# Altium footprint library zulu_a7.PcbLib: 41 footprints (part 1 of 3)
Each footprint in its own frame and in the unit in brackets; x right, y up, seen from the top. Pads: shape width x height; smd on the part's side, far side on the other; paste and mask are expansions set on the pad; w line width, h text height; cw(c..) or ccw(c..) is an arc to the next point about the centre after c.
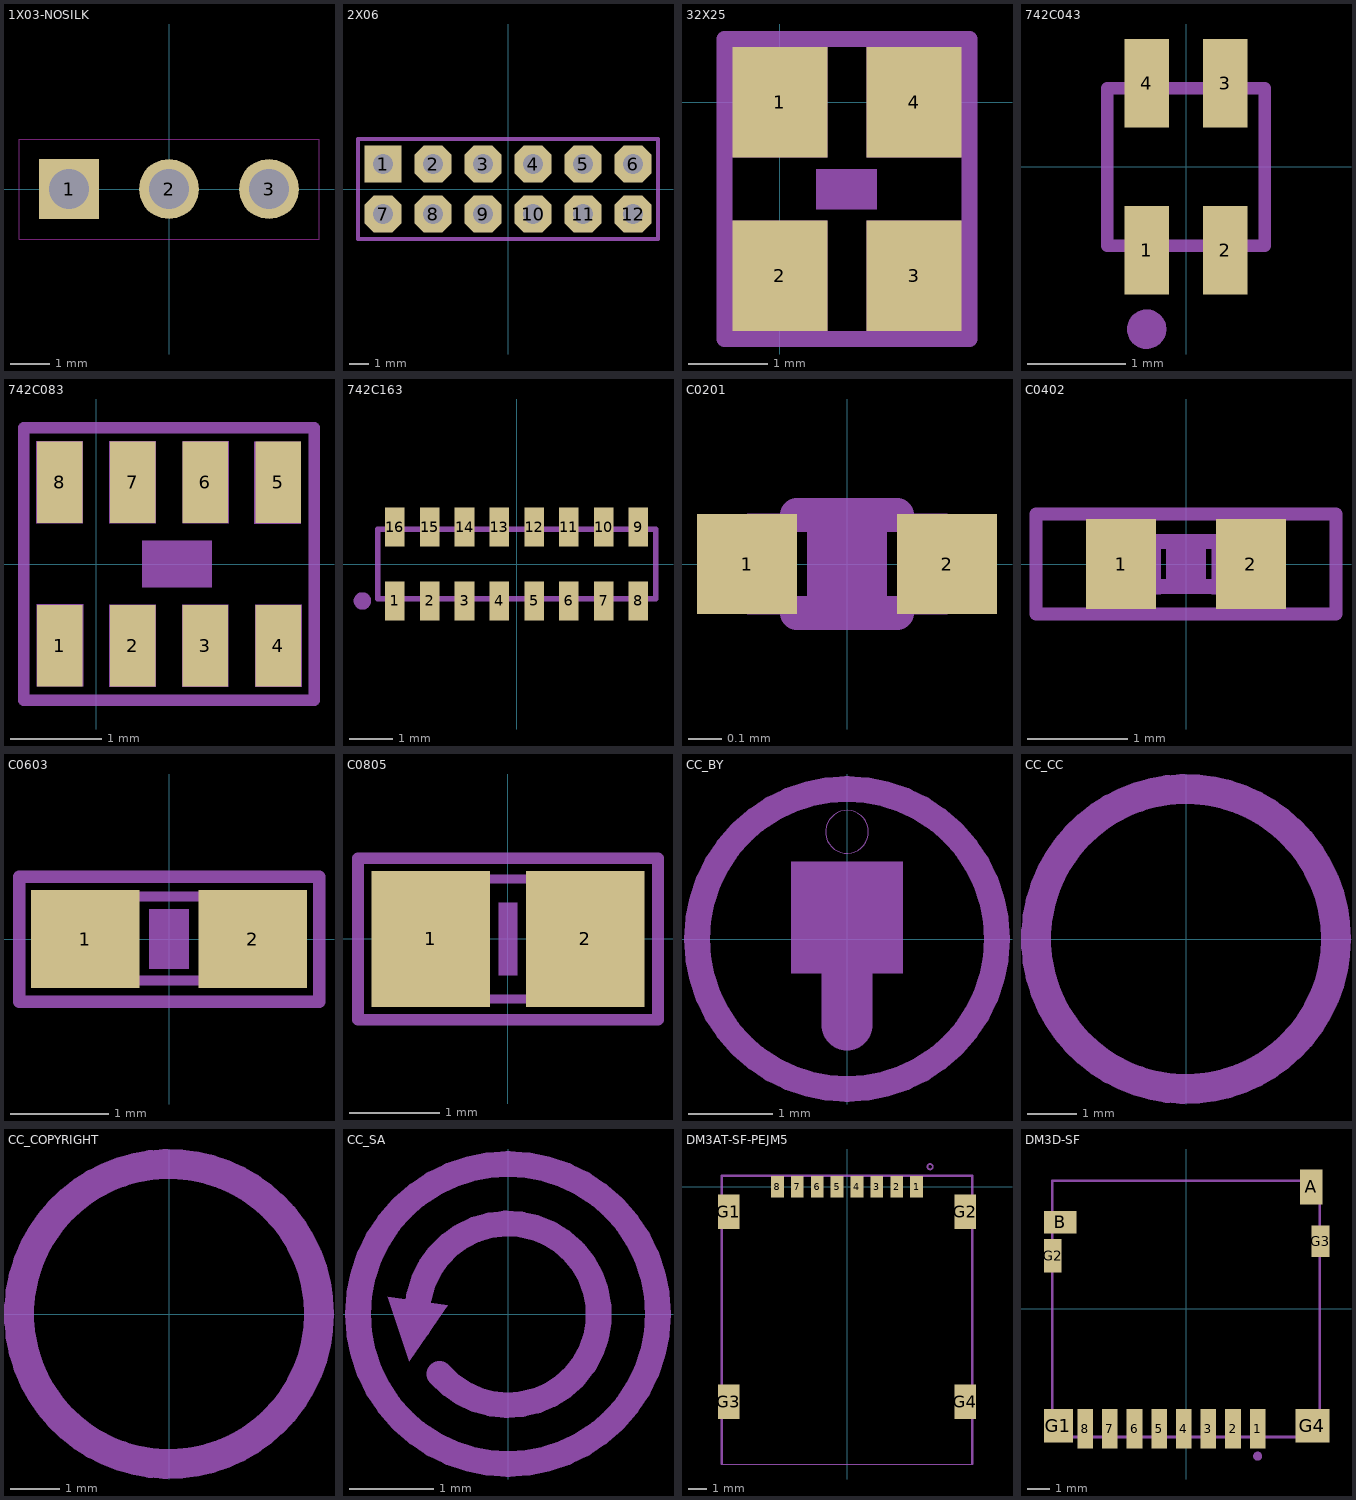
[diagram p0: the footprints below, top view; thin cyan lines are the x and y axes]

## 1X03-NOSILK [mil] "1X03-NOSILK"
pads (3):
  rect 60x60 / inner round 55.43 / far side rect 60x60 hole 40: 1(-100,0)
  round 60 hole 40: 2(0,0) 3(100,0)
Top Layer keep-out:
  lines w0: -150,-50 150,-50 150,50 -150,50 -150,-50
Mechanical 3:
  region: -110,-10 -110,10 -90,10 -90,-10
  region: -10,-10 -10,10 10,10 10,-10
  region: 90,-10 90,10 110,10 110,-10

## 2X06 [mil] "2X06"
pads (12):
  rect 74x74 / inner round 68.37 / far side rect 74x74 hole 40: 1(-250,50)
  oct 74x74 / inner round 68.37 / far side oct 74x74 hole 40: 2(-150,50) 3(-50,50) 4(50,50) 5(150,50) 6(250,50) 7(-250,-50) 8(-150,-50) 9(-50,-50) 10(50,-50) 11(150,-50) 12(250,-50)
Mechanical 7:
  lines w8: -300,-100 300,-100 300,100 -300,100 -300,-100

## 32X25 [mm] "32X25"
pads (4):
  rect 1.2x1.4 smd: 1(0,0) 2(0,-2.2) 3(1.7,-2.2) 4(1.7,0)
Mechanical 3:
  region: -0.6,-0.7 0.6,-0.7 0.6,0.7 -0.6,0.7
  region: 1.1,-0.7 2.3,-0.7 2.3,0.7 1.1,0.7
  region: -0.6,-2.9 0.6,-2.9 0.6,-1.5 -0.6,-1.5
  region: 1.1,-2.9 2.3,-2.9 2.3,-1.5 1.1,-1.5
Mechanical 7:
  lines w0.2: -0.7,-3 -0.7,0.8 2.4,0.8 2.4,-3 -0.7,-3
Top Glue Points:
  region: 0.463,-1.359 0.463,-0.851 1.225,-0.851 1.225,-1.359

## 742C043 [mm] "742C043"
pads (4):
  rect 0.45x0.9 smd: 1(-0.4,-0.85) 2(0.4,-0.85) 3(0.4,0.85) 4(-0.4,0.85)
Mechanical 3:
  lines w0.127: -0.8,-0.8 0.8,-0.8 0.8,0.8 -0.8,0.8 -0.8,-0.8
Mechanical 7:
  circle w0.2: c-0.4,-1.65 r0.1
  lines w0.127: -0.8,-0.186 -0.8,0.186 ; 0.8,-0.186 0.8,0.186

## 742C083 [mm] "742C083"
pads (8):
  rect 0.5x0.9 smd: 1(-0.4,-0.9) 2(0.4,-0.9) 3(1.2,-0.9) 4(2,-0.9) 5(2,0.9) 6(1.2,0.9) 7(0.4,0.9) 8(-0.4,0.9)
Mechanical 4:
  region: -0.658,0.449 -0.658,1.352 -0.148,1.352 -0.148,0.449
  region: 0.143,0.449 0.143,1.352 0.653,1.352 0.653,0.449
  region: 0.949,0.449 0.949,1.352 1.459,1.352 1.459,0.449
  region: 1.74,0.444 1.74,1.347 2.25,1.347 2.25,0.444
  region: -0.653,-1.347 -0.653,-0.444 -0.143,-0.444 -0.143,-1.347
  region: 0.143,-1.352 0.143,-0.449 0.653,-0.449 0.653,-1.352
  region: 0.944,-1.352 0.944,-0.449 1.454,-0.449 1.454,-1.352
  region: 1.75,-1.352 1.75,-0.449 2.26,-0.449 2.26,-1.352
Mechanical 8:
  lines w0.127: -0.8,-1.5 2.4,-1.5 2.4,1.5 -0.8,1.5 -0.8,-1.5
Bottom Glue Points:
  region: 0.508,-0.254 0.508,0.254 1.27,0.254 1.27,-0.254

## 742C163 [mm] "742C163"
pads (16):
  rect 0.45x0.9 smd: 1(-2.8,-0.85) 2(-2,-0.85) 3(-1.2,-0.85) 4(-0.4,-0.85) 5(0.4,-0.85) 6(1.2,-0.85) 7(2,-0.85) 8(2.8,-0.85) 9(2.8,0.85) 10(2,0.85) 11(1.2,0.85) 12(0.4,0.85) 13(-0.4,0.85) 14(-1.2,0.85) 15(-2,0.85) 16(-2.8,0.85)
Mechanical 3:
  lines w0.127: -3.2,-0.8 3.2,-0.8 3.2,0.8 -3.2,0.8 -3.2,-0.8
Mechanical 7:
  circle w0.2: c-3.55,-0.85 r0.1
  lines w0.127: -3.2,-0.186 -3.2,0.186 ; 3.2,-0.186 3.2,0.186

## C0201 [mm] "C0201"
pads (2):
  rect 0.3x0.3 smd: 1(-0.3,0) 2(0.3,0)
Mechanical 3:
  region: -0.3,-0.15 -0.3,0.15 -0.15,0.15 -0.15,-0.15
  region: 0.15,-0.15 0.15,0.15 0.3,0.15 0.3,-0.15
  lines w0.102: -0.15,-0.147 0.15,-0.147 ; -0.15,0.147 0.15,0.147
Top Glue Points:
  region: -0.12,-0.15 -0.12,0.15 0.12,0.15 0.12,-0.15

## C0402 [mm] "C0402"
pads (2):
  rect 0.7x0.9 smd: 1(-0.65,0) 2(0.65,0)
Mechanical 3:
  region: -0.554,-0.305 -0.554,0.295 -0.254,0.295 -0.254,-0.305
  region: 0.259,-0.305 0.259,0.295 0.559,0.295 0.559,-0.305
  lines w0.152: -0.245,-0.224 0.245,-0.224 ; -0.245,0.224 0.245,0.224
Mechanical 7:
  lines w0.127: -1.5,-0.5 1.5,-0.5 1.5,0.5 -1.5,0.5 -1.5,-0.5
Top Glue Points:
  region: -0.2,-0.3 -0.2,0.3 0.2,0.3 0.2,-0.3

## C0603 [mm] "C0603"
pads (2):
  rect 1.1x1 smd: 1(-0.85,0) 2(0.85,0)
Mechanical 4:
  region: -0.838,-0.47 -0.838,0.48 -0.338,0.48 -0.338,-0.47
  region: 0.33,-0.47 0.33,0.48 0.83,0.48 0.83,-0.47
  lines w0.102: -0.356,-0.419 0.356,-0.419 ; -0.356,0.432 0.356,0.432
Mechanical 8:
  lines w0.127: -1.524,-0.635 1.524,-0.635 1.524,0.635 -1.524,0.635 -1.524,-0.635
Bottom Glue Points:
  region: -0.2,-0.3 -0.2,0.3 0.2,0.3 0.2,-0.3

## C0805 [mm] "C0805"
pads (2):
  rect 1.3x1.5 smd: 1(-0.85,0) 2(0.85,0)
Mechanical 4:
  region: -1.092,-0.724 -1.092,0.726 -0.342,0.726 -0.342,-0.724
  region: 0.356,-0.724 0.356,0.726 1.106,0.726 1.106,-0.724
  lines w0.102: -0.381,0.66 0.381,0.66 ; -0.356,-0.66 0.381,-0.66
Mechanical 8:
  lines w0.127: -1.651,-0.889 1.651,-0.889 1.651,0.889 -1.651,0.889 -1.651,-0.889
Bottom Glue Points:
  region: -0.1,-0.4 -0.1,0.4 0.1,0.4 0.1,-0.4

## CC_BY [mm] "CC_BY"
Mechanical 3:
  circle w0: c0,1.27 r0.254
  circle w0.305: c0,0 r1.778
  region: -0.66,-0.406 0.66,-0.406 0.66,0.914 -0.66,0.914
  lines w0.61: 0,-1.016 0,0.508
  text "BY" at -1.524,-5.334 h2.76

## CC_CC [mm] "CC_CC"
Mechanical 3:
  circle w0.61: c0,0 r3.058
  text "CC" at -2.032,-1.27 h3.94

## CC_COPYRIGHT [mm] "CC_COPYRIGHT"
Mechanical 3:
  circle w0.61: c0,0 r3.058
  text "C" at -1.372,-1.93 h5.91

## CC_SA [mm] "CC_SA"
Mechanical 3:
  circle w0.305: c0,0 r1.778
  region: -1.422,0.203 -1.168,-0.559 -0.711,0.102
  lines w0.305: -1.067,-0.152 cw(c0,-0.005) -0.813,-0.711
  text "SA" at -1.524,-5.334 h2.76

## DM3AT-SF-PEJM5 [mm] "DM3AT-SF-PEJM5"
pads (12):
  rect 0.7x1.2 smd: 1(3.85,0) 2(2.75,0) 3(1.65,0) 4(0.55,0) 5(-0.55,0) 6(-1.65,0) 7(-2.75,0) 8(-3.85,0)
  rect 1.2x1.9 smd: G1(-6.55,-1.4) G2(6.55,-1.4) G3(-6.55,-11.9) G4(6.55,-11.9)
Mechanical 3:
  lines w0.05: -6.93,-15.35 6.93,-15.35 6.93,0.6 -6.93,0.6 -6.93,-15.35
Mechanical 7:
  circle w0.1: c4.6,1.1 r0.15
  lines w0.127: -6.93,-15.35 -6.93,0.6 6.93,0.6 6.93,-15.35

## DM3D-SF [mm] "DM3D-SF"
pads (14):
  rect 0.7x1.75 smd: 1(3.2,-5.35) 2(2.1,-5.35) 3(1,-5.35) 4(-0.1,-5.35) 5(-1.2,-5.35) 6(-2.3,-5.35) 7(-3.4,-5.35) 8(-4.5,-5.35)
  rect 1x1.55 smd: A(5.6,5.45)
  rect 1.45x1 smd: B(-5.625,3.875)
  rect 1.3x1.5 smd: G1(-5.7,-5.225)
  rect 0.8x1.5 smd: G2(-5.95,2.375)
  rect 0.8x1.4 smd: G3(6,3.025)
  rect 1.5x1.5 smd: G4(5.65,-5.225)
Mechanical 3:
  lines w0.127: -5.975,-5.725 5.975,-5.725 5.975,5.725 -5.975,5.725 -5.975,-5.725
Mechanical 7:
  circle w0.2: c3.2,-6.575 r0.1
  lines w0.127: -5.975,-4.262 -5.975,1.411 ; -5.975,4.589 -5.975,5.725 4.886,5.725 ; 3.764,-5.725 4.687,-5.725 ; 5.975,-4.262 5.975,2.112 ; 5.975,3.939 5.975,4.462